# EAGLE library part INA4810 (library IC)
Quad Channel Current Sense Amp Gains set by part number 20,50,100,200
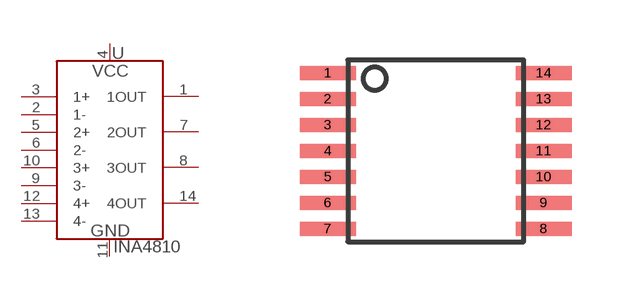
[diagram p12: symbol with the pads of TSSOP-14; footprint TSSOP-14]

Designator prefix U

## INA4810A1 (GAIN: 20x; MPN: INA4180A1IPWR), INA4810A2 (GAIN: 50x; MPN: INA4180A2IPWR), INA4810A3 (GAIN: 100x; MPN: INA4180A3IPWR), INA4810A4 (GAIN: 200x; MPN: INA4180A4IPWR)  [TSSOP-14]
1  1OUT
2  1-
3  1+
4  VCC
5  2+
6  2-
7  2OUT
8  3OUT
9  3-
10  3+
11  GND
12  4+
13  4-
14  4OUT

## Footprint TSSOP-14 (pad centres in mm)
smd 1.4 x 0.35: 1 -2.7,1.625; 2 -2.7,0.975; 3 -2.7,0.325; 4 -2.7,-0.325; 5 -2.7,-0.975; 6 -2.7,-1.625; 7 -2.7,-2.275; 8 2.7,-2.275; 9 2.7,-1.625; 10 2.7,-0.975; 11 2.7,-0.325; 12 2.7,0.325; 13 2.7,0.975; 14 2.7,1.625